# Altium footprint library Crystals.PcbLib: 1 footprints
Each footprint in its own frame and in the unit in brackets; x right, y up, seen from the top. Pads: shape width x height; smd on the part's side, far side on the other; paste and mask are expansions set on the pad; w line width, h text height; cw(c..) or ccw(c..) is an arc to the next point about the centre after c.
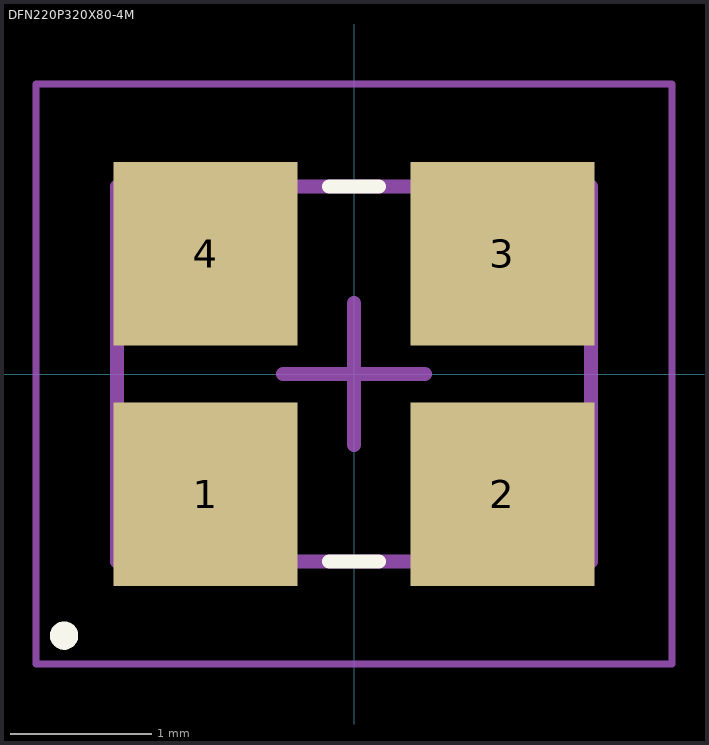
[diagram p0: the footprint, top view; thin cyan lines are the x and y axes]

## DFN220P320X80-4M [mm] "DFN, 4-Leads, Body 2.50x3.20mm, Pitch 2.20mm, IPC Low Density"
height 0.8
pads (4):
  rect 1.3x1.3 smd: 1(-1.05,-0.85) 2(1.05,-0.85) 3(1.05,0.85) 4(-1.05,0.85)
Top Overlay:
  circle w0.1: c-2.05,-1.85 r0.05
  lines w0.1: -0.175,-1.325 0.175,-1.325 ; -0.175,1.325 0.175,1.325
Top Solder:
  rectangle: 0.3,-1.6 1.8,1.6
  rectangle: -1.8,-1.6 -0.3,1.6
Top Assembly:
  lines w0.1: -1.675,-1.325 -1.675,1.325 1.675,1.325 1.675,-1.325 -1.675,-1.325
Top Courtyard:
  lines w0.05: -2.25,-2.05 2.25,-2.05 2.25,2.05 -2.25,2.05 -2.25,-2.05
  lines w0.1: -0.5,0 0.5,0 ; 0,-0.5 0,0.5
3D body: height 0.8, standoff 0, extent -1.675,-1.325 1.675,1.325